# Altium schematic symbol library Voltage detect new components.SCHLIB: 15 symbols
Pins are listed as number, name and electrical type; pins without a type are passive.

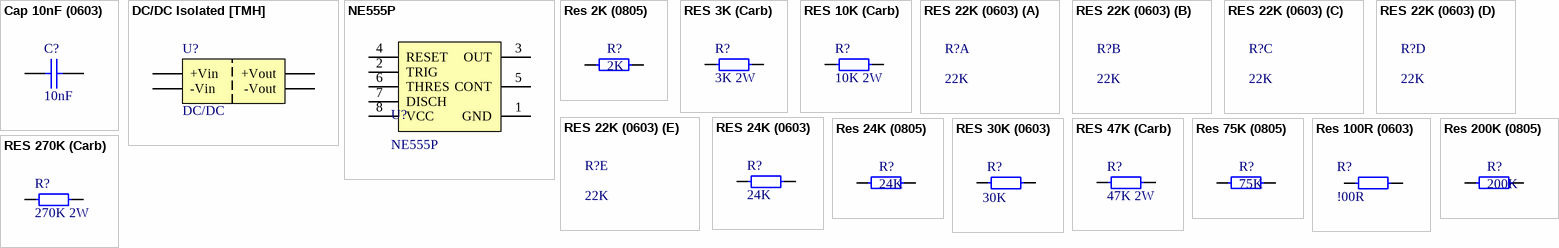
[diagram p0: symbols Cap 10nF (0603) to RES 270K (Carb)]

## Cap 10nF (0603)
designator C?, comment 10nF
X7R 10nF 100V 10% 0603; Manufacturer: Murata Manufacturing; Part Number: GRM188R72A103KA01D; Type: Capacitor; ComponentLink1Description: Chip&Dip; ComponentLink1URL: https://www.chipdip.ru/product/grm188r72a103ka01d
footprint 0603 Capicator
pins: 1, 2

## DC/DC Isolated [TMH]
designator U?, comment DC/DC
The TMV series are ultra miniature, isolated 1 Watt DC/DC-converters in a Single-in-Line  package  (SIP); ComponentLink1Description: Chip&Dip; ComponentLink2Description: New link; ComponentLink2URL: https://static.chipdip.ru/lib/005/DOC001005854.pdf
footprint SIP7 TMV
pins: 1 +Vin (power) "Input Supply Voltage", 2 -Vin (power) "Power Ground", 4 -Vout (power), 6 +Vout (power)

## NE555P
designator U?
Precision Timer, 4.5 to 16 V, 0 to 70 degC, 8-Pin DIP, Pb-Free, Tube; ComponentLink1Description: CHIP&DIP; ComponentLink1URL: https://www.chipdip.ru/product/ne555p; ComponentLink2Description: Datasheet; ComponentLink2URL: https://static.chipdip.ru/lib/222/DOC000222900.pdf
footprint NE555P (DIP, 8-Leads, Body 10.15x6.6mm, Pitch 2.54mm)
pins: 1 GND, 2 TRIG, 3 OUT, 4 RESET, 5 CONT, 6 THRES, 7 DISCH, 8 VCC

## Res 2K (0805)
designator R?, comment 2K
0.125W 0805 2K, 1%; Part Number: RC0805FR-072KL; Manufacturer: Taiwan; Type: Resistor; ComponentLink1Description: Chip&Dip; ComponentLink1URL: https://www.chipdip.ru/product0/304329612
footprint 0805 Resistor
pins: 1, 2

## RES 3K (Carb)
designator R?, comment 3K 2W
ComponentLink1Description: New link; ComponentLink1URL: https://www.chipdip.ru/product0/16993
footprint Carbon res
pins: 0, 1

## RES 10K (Carb)
designator R?, comment 10K 2W
ComponentLink1Description: New link; ComponentLink1URL: https://www.chipdip.ru/product0/14378
footprint Carbon res
pins: 0, 1

## RES 22K (0603)
designator R?, comment 22K
footprint 0603 Resistor

## RES 24K (0603)
designator R?, comment 24K
ComponentLink1Description: New link; ComponentLink1URL: https://www.chipdip.ru/product0/9000079745
footprint 0603 Resistor
pins: 1, 2

## Res 24K (0805)
designator R?, comment 24K
0.125W 0805 24K, 1%; Part Number: RC0805FR-0724KL; Manufacturer: Taiwan; Type: Resistor; ComponentLink1Description: Chip&Dip; ComponentLink1URL: https://www.chipdip.ru/product0/9000079523
footprint 0805 Resistor
pins: 1, 2

## RES 30K (0603)
designator R?, comment 30K
footprint 0603 Resistor
pins: 1, 2

## RES 47K (Carb)
designator R?, comment 47K 2W
ComponentLink1Description: New link; ComponentLink1URL: https://www.chipdip.ru/product0/47437
footprint Carbon res
pins: 0, 1

## Res 75K (0805)
designator R?, comment 75K
0.125W 0805 75K, 1%; Part Number: RC0805FR-0775KL; Manufacturer: Taiwan; Type: Resistor; ComponentLink1Description: Chip&Dip; ComponentLink1URL: https://www.chipdip.ru/product0/9000079535
footprint 0805 Resistor
pins: 1, 2

## Res 100R (0603)
designator R?, comment !00R
0.1W 0603 100R, 1%; ComponentLink1Description: New link; ComponentLink1URL: https://www.chipdip.ru/product0/9000079616
footprint 0603 Resistor
pins: 1, 2

## Res 200K (0805)
designator R?, comment 200K
0.125W 0805 200K, 1%; Part Number: RC0805FK-07200KL; Manufacturer: Taiwan; Type: Resistor; ComponentLink1Description: Chip&Dip; ComponentLink1URL: https://www.chipdip.ru/product0/914213016
footprint 0805 Resistor
pins: 1, 2

## RES 270K (Carb)
designator R?, comment 270K 2W
ComponentLink1Description: New link; ComponentLink1URL: https://www.chipdip.ru/product0/23610
footprint Carbon res
pins: 0, 1